# Altium footprint library BiricuticoBonito.PcbLib: 34 footprints (part 2 of 3)
Each footprint in its own frame and in the unit in brackets; x right, y up, seen from the top. Pads: shape width x height; smd on the part's side, far side on the other; paste and mask are expansions set on the pad; w line width, h text height; cw(c..) or ccw(c..) is an arc to the next point about the centre after c.
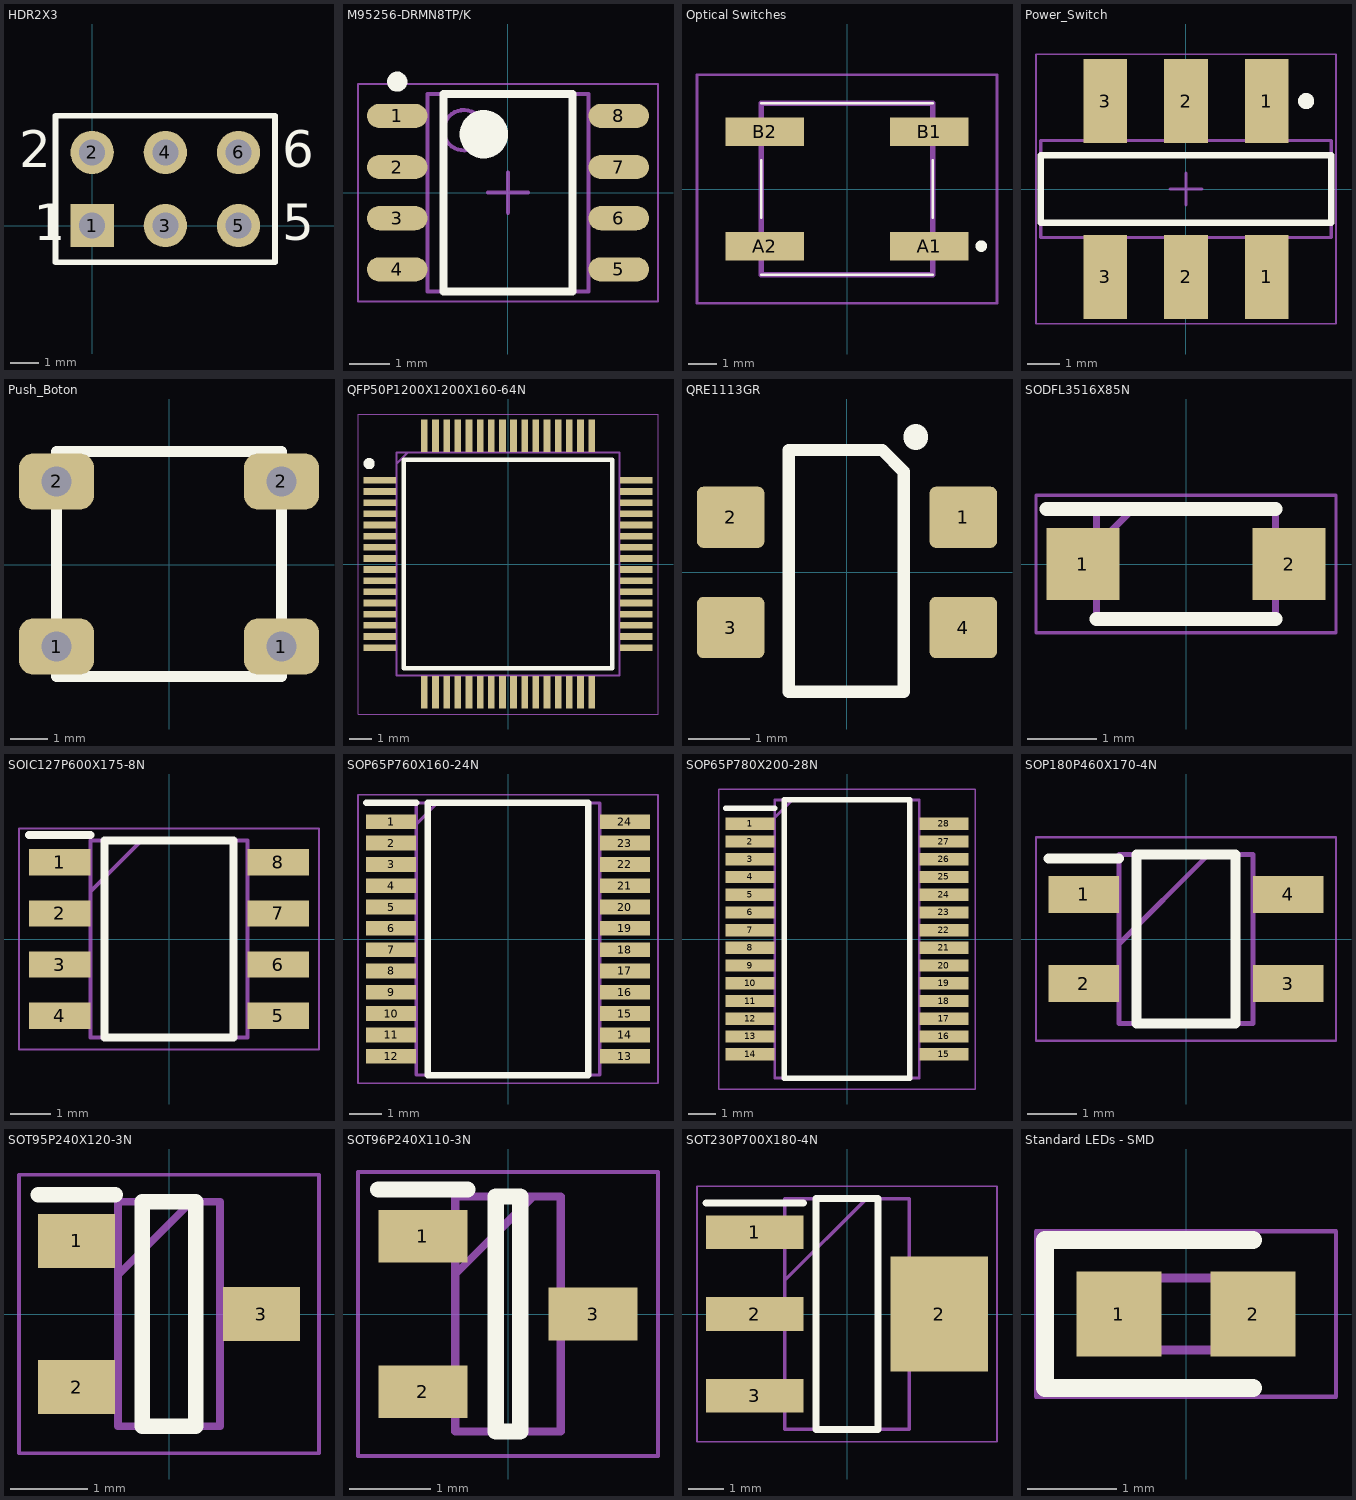
[diagram p1: the footprints below, top view; thin cyan lines are the x and y axes]

## HDR2X3 [mm] "Connector; Header; 3x2 Position"
pads (6):
  rect 1.5x1.5 hole 0.9: 1(0,0)
  round 1.5 hole 0.9: 2(0,2.54) 3(2.54,0) 4(2.54,2.54) 5(5.08,0) 6(5.08,2.54)
Top Overlay:
  lines w0.2: 1.482,-1.27 6.35,-1.27 ; 6.35,-1.27 -1.27,-1.27 -1.27,3.81 6.35,3.81 6.35,-1.27
  text "1" at -2.032,-0.508 h1.27
  text "2" at -2.54,2.032 h1.27
  text "5" at 6.604,-0.508 h1.27
  text "6" at 6.604,2.032 h1.27

## M95256-DRMN8TP/K [mm] "SOIC, 8-Leads, Body 4,95x3,95mm, Pitch 1,27mm, IPC Medium Density"
height 1.75
pads (8):
  oval 1.5x0.6 smd: 1(-2.75,1.905) 2(-2.75,0.635) 3(-2.75,-0.635) 4(-2.75,-1.905) 5(2.75,-1.905) 6(2.75,-0.635) 7(2.75,0.635) 8(2.75,1.905)
Top Overlay:
  circle w0.25: c-2.75,2.755 r0.125
  circle w0.6: c-0.6,1.45 r0.3
  lines w0.2: -1.6,-2.45 -1.6,2.45 1.6,2.45 1.6,-2.45 -1.6,-2.45
Mechanical 13:
  circle w0.1: c-1.1,1.55 r0.5
  lines w0.1: -2,-2.45 -2,2.45 2,2.45 2,-2.45 -2,-2.45
Mechanical 15:
  lines w0.05: -3.725,-2.7 -3.725,2.7 3.725,2.7 3.725,-2.7 -3.725,-2.7
  lines w0.1: -0.5,0 0.5,0 ; 0,-0.5 0,0.5
3D body: height 1.75, standoff 0.25, extent -2,-2.45 2,2.45

## Optical Switches [mm]
pads (4):
  rect 2.75x1 smd: A1(2.875,-2) A2(-2.875,-2) B1(2.875,2) B2(-2.875,2)
Top Overlay:
  lines w0.1: -3,-3 3,-3 ; -3,-1 -3,1 ; -3,3 3,3 ; 3,-1 3,1
  lines w0.2: 4.6,-2 ccw(c4.7,-2) 4.8,-2 ccw(c4.7,-2) 4.6,-2
Mechanical 13:
  lines w0.2: -3,-3 3,-3 3,3 -3,3 -3,-3
Mechanical 15:
  lines w0.1: -5.25,-4 5.25,-4 5.25,4 -5.25,4 -5.25,-4
3D body "EVP-BFAC1A000.stp": height 3.8, standoff 0, extent -4.15,-3 4.15,3

## Power_Switch [mm]
pads (6):
  rect 1.35x2.6 smd: 1(2.5,-2.725) 1(2.5,2.725) 2(0,-2.725) 2(0,2.725) 3(-2.5,-2.725) 3(-2.5,2.725)
Top Overlay:
  circle w0.25: c3.725,2.725 r0.125
  lines w0.2: -4.5,-1.05 -4.5,1.05 4.5,1.05 4.5,-1.05 -4.5,-1.05
Mechanical 13:
  lines w0.1: -4.5,-1.5 4.5,-1.5 4.5,1.5 -4.5,1.5 -4.5,-1.5
Mechanical 15:
  lines w0.05: -4.65,-4.175 4.65,-4.175 4.65,4.175 -4.65,4.175 -4.65,-4.175
  lines w0.1: -0.5,0 0.5,0 ; 0,-0.5 0,0.5
3D body: height 3.5, standoff 0, extent -4.5,-1.5 4.5,1.5

## Push_Boton [mm]
pads (4):
  rrect50% 2x1.5 hole 0.8: 1(-3,-2.175) 1(3,-2.175) 2(-3,2.225) 2(3,2.225)
Top Overlay:
  lines w0.3: -3,-2.975 3,-2.975 3,3.025 -3,3.025 -3,-2.975

## QFP50P1200X1200X160-64N [mm]
pads (64):
  rect 1.45x0.3 smd: 1(-5.75,3.75) 2(-5.75,3.25) 3(-5.75,2.75) 4(-5.75,2.25) 5(-5.75,1.75) 6(-5.75,1.25) 7(-5.75,0.75) 8(-5.75,0.25) 9(-5.75,-0.25) 10(-5.75,-0.75) 11(-5.75,-1.25) 12(-5.75,-1.75) 13(-5.75,-2.25) 14(-5.75,-2.75) 15(-5.75,-3.25) 16(-5.75,-3.75) 33(5.75,-3.75) 34(5.75,-3.25) 35(5.75,-2.75) 36(5.75,-2.25) 37(5.75,-1.75) 38(5.75,-1.25) 39(5.75,-0.75) 40(5.75,-0.25) 41(5.75,0.25) 42(5.75,0.75) 43(5.75,1.25) 44(5.75,1.75) 45(5.75,2.25) 46(5.75,2.75) 47(5.75,3.25) 48(5.75,3.75)
  rect 0.3x1.45 smd: 17(-3.75,-5.75) 18(-3.25,-5.75) 19(-2.75,-5.75) 20(-2.25,-5.75) 21(-1.75,-5.75) 22(-1.25,-5.75) 23(-0.75,-5.75) 24(-0.25,-5.75) 25(0.25,-5.75) 26(0.75,-5.75) 27(1.25,-5.75) 28(1.75,-5.75) 29(2.25,-5.75) 30(2.75,-5.75) 31(3.25,-5.75) 32(3.75,-5.75) 49(3.75,5.75) 50(3.25,5.75) 51(2.75,5.75) 52(2.25,5.75) 53(1.75,5.75) 54(1.25,5.75) 55(0.75,5.75) 56(0.25,5.75) 57(-0.25,5.75) 58(-0.75,5.75) 59(-1.25,5.75) 60(-1.75,5.75) 61(-2.25,5.75) 62(-2.75,5.75) 63(-3.25,5.75) 64(-3.75,5.75)
Top Overlay:
  circle w0.25: c-6.225,4.5 r0.125
  lines w0.2: -4.675,-4.675 -4.675,4.675 4.675,4.675 4.675,-4.675 -4.675,-4.675
Mechanical 13:
  lines w0.1: -5,4.5 -4.5,5 ; -5,-5 -5,5 5,5 5,-5 -5,-5
Mechanical 15:
  lines w0.05: -6.725,-6.725 -6.725,6.725 6.725,6.725 6.725,-6.725 -6.725,-6.725
3D body "STM32F401RBT6.stp": height 1.6, standoff 0, extent -6,-6 6,6

## QRE1113GR [mm]
pads (4):
  rrect20% 1.1x1 smd: 1(1.9,0.9) 2(-1.9,0.9) 3(-1.9,-0.9) 4(1.9,-0.9)
Top Overlay:
  lines w0.2: -0.95,-1.95 0.925,-1.95 0.925,1.65 0.575,2 -0.95,2 -0.95,-1.95
  lines w0.4: 1.125,2.2 1.125,2.225

## SODFL3516X85N [mm]
pads (2):
  rect 1.06x1.04 smd: 1(-1.5,0) 2(1.5,0)
Top Overlay:
  lines w0.2: -2.03,0.8 1.3,0.8 ; -1.3,-0.8 1.3,-0.8
Mechanical 13:
  lines w0.1: -1.3,0.27 -0.77,0.8 ; -1.3,-0.8 1.3,-0.8 1.3,0.8 -1.3,0.8 -1.3,-0.8
Mechanical 15:
  lines w0.05: -2.18,-1 2.18,-1 2.18,1 -2.18,1 -2.18,-1
3D body "DB2W40300L.stp": height 0.85, standoff 0, extent -1.75,-0.8 1.75,0.8

## SOIC127P600X175-8N [mm]
pads (8):
  rect 1.525x0.65 smd: 1(-2.712,1.905) 2(-2.712,0.635) 3(-2.712,-0.635) 4(-2.712,-1.905) 5(2.712,-1.905) 6(2.712,-0.635) 7(2.712,0.635) 8(2.712,1.905)
Top Overlay:
  lines w0.2: -3.475,2.58 -1.95,2.58 ; -1.6,-2.45 -1.6,2.45 1.6,2.45 1.6,-2.45 -1.6,-2.45
Mechanical 13:
  lines w0.1: -1.95,1.18 -0.68,2.45 ; -1.95,-2.45 -1.95,2.45 1.95,2.45 1.95,-2.45 -1.95,-2.45
Mechanical 15:
  lines w0.05: -3.725,-2.75 -3.725,2.75 3.725,2.75 3.725,-2.75 -3.725,-2.75
3D body "NE555DR.stp": height 1.75, standoff 0, extent -3,-2.45 3,2.45

## SOP65P760X160-24N [mm]
pads (24):
  rect 1.525x0.45 smd: 1(-3.562,3.575) 2(-3.562,2.925) 3(-3.562,2.275) 4(-3.562,1.625) 5(-3.562,0.975) 6(-3.562,0.325) 7(-3.562,-0.325) 8(-3.562,-0.975) 9(-3.562,-1.625) 10(-3.562,-2.275) 11(-3.562,-2.925) 12(-3.562,-3.575) 13(3.562,-3.575) 14(3.562,-2.925) 15(3.562,-2.275) 16(3.562,-1.625) 17(3.562,-0.975) 18(3.562,-0.325) 19(3.562,0.325) 20(3.562,0.975) 21(3.562,1.625) 22(3.562,2.275) 23(3.562,2.925) 24(3.562,3.575)
Top Overlay:
  lines w0.2: -4.325,4.15 -2.8,4.15 ; -2.45,-4.15 2.45,-4.15 2.45,4.15 -2.45,4.15 -2.45,-4.15
Mechanical 13:
  lines w0.1: -2.8,3.5 -2.15,4.15 ; -2.8,-4.15 2.8,-4.15 2.8,4.15 -2.8,4.15 -2.8,-4.15
Mechanical 15:
  lines w0.05: -4.575,-4.4 4.575,-4.4 4.575,4.4 -4.575,4.4 -4.575,-4.4
3D body "TB6612FNG,C,8,EL.stp": height 1.6, standoff 0, extent -3.8,-4.15 3.8,4.15

## SOP65P780X200-28N [mm]
pads (28):
  rect 1.8x0.45 smd: 1(-3.55,4.225) 2(-3.55,3.575) 3(-3.55,2.925) 4(-3.55,2.275) 5(-3.55,1.625) 6(-3.55,0.975) 7(-3.55,0.325) 8(-3.55,-0.325) 9(-3.55,-0.975) 10(-3.55,-1.625) 11(-3.55,-2.275) 12(-3.55,-2.925) 13(-3.55,-3.575) 14(-3.55,-4.225) 15(3.55,-4.225) 16(3.55,-3.575) 17(3.55,-2.925) 18(3.55,-2.275) 19(3.55,-1.625) 20(3.55,-0.975) 21(3.55,-0.325) 22(3.55,0.325) 23(3.55,0.975) 24(3.55,1.625) 25(3.55,2.275) 26(3.55,2.925) 27(3.55,3.575) 28(3.55,4.225)
Top Overlay:
  lines w0.2: -4.45,4.8 -2.65,4.8 ; -2.3,-5.1 -2.3,5.1 2.3,5.1 2.3,-5.1 -2.3,-5.1
Mechanical 13:
  lines w0.1: -2.65,4.45 -2,5.1 ; -2.65,-5.1 -2.65,5.1 2.65,5.1 2.65,-5.1 -2.65,-5.1
Mechanical 15:
  lines w0.05: -4.7,-5.5 -4.7,5.5 4.7,5.5 4.7,-5.5 -4.7,-5.5
3D body "FT232RL-REEL.stp": height 2, standoff 0, extent -3.9,-5.1 3.9,5.1

## SOP180P460X170-4N [mm]
pads (4):
  rect 1.425x0.75 smd: 1(-2.062,0.9) 2(-2.062,-0.9) 3(2.062,-0.9) 4(2.062,0.9)
Top Overlay:
  lines w0.2: -2.775,1.625 -1.35,1.625 ; -1,-1.7 1,-1.7 1,1.7 -1,1.7 -1,-1.7
Mechanical 13:
  lines w0.1: -1.35,-0.1 0.45,1.7 ; -1.35,-1.7 1.35,-1.7 1.35,1.7 -1.35,1.7 -1.35,-1.7
Mechanical 15:
  lines w0.05: -3.025,-2.05 3.025,-2.05 3.025,2.05 -3.025,2.05 -3.025,-2.05
3D body "QRE1113GR.stp": height 1.7, standoff 0, extent -2.3,-1.7 2.3,1.7

## SOT95P240X120-3N [mm]
pads (3):
  rect 1x0.7 smd: 1(-1.2,0.95) 2(-1.2,-0.95) 3(1.2,0)
Top Overlay:
  lines w0.2: -1.7,1.55 -0.7,1.55 ; -0.35,-1.46 -0.35,1.46 0.35,1.46 0.35,-1.46 -0.35,-1.46
Mechanical 13:
  lines w0.1: -0.662,0.51 0.288,1.46 ; -0.662,-1.46 -0.662,1.46 0.662,1.46 0.662,-1.46 -0.662,-1.46
Mechanical 15:
  lines w0.05: -1.95,-1.81 -1.95,1.81 1.95,1.81 1.95,-1.81 -1.95,-1.81
3D body "2N7002.stp": height 1.2, standoff 0, extent -1.2,-1.46 1.2,1.46

## SOT96P240X110-3N [mm]
pads (3):
  rect 1.1x0.65 smd: 1(-1.05,0.96) 2(-1.05,-0.96) 3(1.05,0)
Top Overlay:
  lines w0.2: -1.6,1.535 -0.5,1.535 ; -0.15,-1.45 -0.15,1.45 0.15,1.45 0.15,-1.45 -0.15,-1.45
Mechanical 13:
  lines w0.1: -0.65,0.49 0.31,1.45 ; -0.65,-1.45 -0.65,1.45 0.65,1.45 0.65,-1.45 -0.65,-1.45
Mechanical 15:
  lines w0.05: -1.85,-1.75 -1.85,1.75 1.85,1.75 1.85,-1.75 -1.85,-1.75
3D body "DMN3023L-7.stp": height 1.1, standoff 0, extent -1.2,-1.45 1.2,1.45

## SOT230P700X180-4N [mm]
pads (4):
  rect 2.75x0.95 smd: 1(-2.6,2.3) 2(-2.6,0) 3(-2.6,-2.3)
  rect 2.75x3.25 smd: 2(2.6,0)
Top Overlay:
  lines w0.2: -3.975,3.125 -1.225,3.125 ; -0.875,-3.25 0.875,-3.25 0.875,3.25 -0.875,3.25 -0.875,-3.25
Mechanical 13:
  lines w0.1: -1.75,0.95 0.55,3.25 ; -1.75,-3.25 1.75,-3.25 1.75,3.25 -1.75,3.25 -1.75,-3.25
Mechanical 15:
  lines w0.05: -4.225,-3.6 4.225,-3.6 4.225,3.6 -4.225,3.6 -4.225,-3.6

## Standard LEDs - SMD [mm]
pads (2):
  rect 0.95x0.95 smd: 1(-0.75,0) 2(0.75,0)
Top Overlay:
  lines w0.2: 0.75,-0.825 -1.575,-0.825 -1.575,0.825 0.75,0.825
Mechanical 13:
  lines w0.1: -0.8,0.133 -0.533,0.4 ; -0.8,-0.4 -0.8,0.4 0.8,0.4 0.8,-0.4 -0.8,-0.4
Mechanical 15:
  lines w0.05: -1.675,-0.925 -1.675,0.925 1.675,0.925 1.675,-0.925 -1.675,-0.925